# Altium footprint library Connector - Terminal Block.PcbLib: 20 footprints (part 2 of 2)
Each footprint in its own frame and in the unit in brackets; x right, y up, seen from the top. Pads: shape width x height; smd on the part's side, far side on the other; paste and mask are expansions set on the pad; w line width, h text height; cw(c..) or ccw(c..) is an arc to the next point about the centre after c.
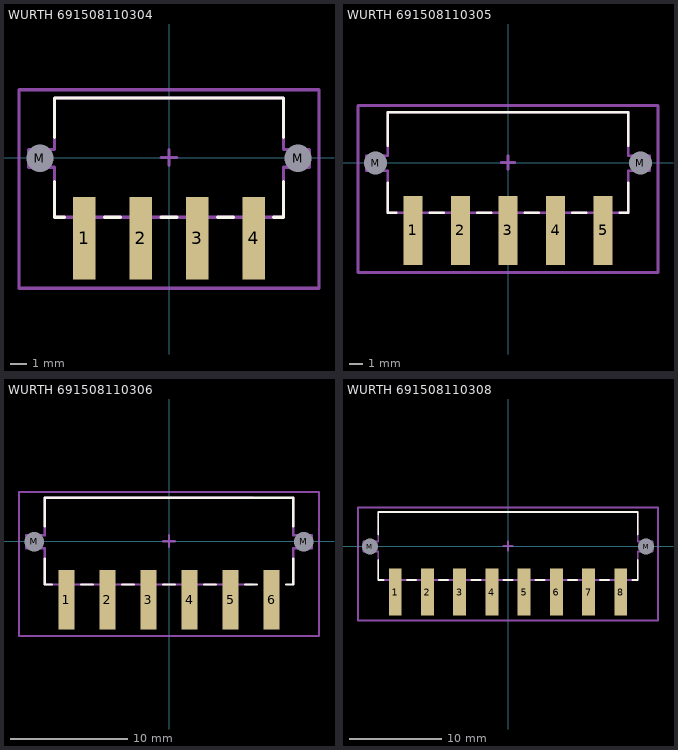
[diagram p1: the footprints below, top view; thin cyan lines are the x and y axes]

## WURTH 691508110304 [mm]
height 11.2
pads (6):
  rect 1.4x5.1 smd: 1(-5.25,-5) 2(-1.75,-5) 3(1.75,-5) 4(5.25,-5)
  round 1 hole 1.7 unplated: M(-8,-0.05) M(8,-0.05)
Top Overlay:
  lines w0.2: -7.1,-1.5 -7.1,-3.7 -6.5,-3.7 ; -7.1,1.25 -7.1,3.7 7.1,3.7 7.1,1.25 ; -4,-3.7 -3,-3.7 ; -0.5,-3.7 0.5,-3.7 ; 3,-3.7 4,-3.7 ; 6.5,-3.7 7.1,-3.7 7.1,-1.5
Mechanical 1:
  lines w0.2: 0,-3.7 3.6,-3.7 ; 0.1,-3.7 -3.5,-3.7 -7.1,-3.7 -7.1,-0.6 -8.7,-0.6 -8.7,0.5 -7.1,0.5 -7.1,3.7 7.1,3.7 7.1,0.5 8.7,0.5 8.7,-0.6 7.1,-0.6 7.1,-3.7 3.5,-3.7
Mechanical 15:
  lines w0.2: -0.5,0 0.5,0 ; 0,-0.5 0,0.5 ; -9.3,-8.1 -9.3,4.2 9.3,4.2 9.3,-8.1 -9.3,-8.1
3D body "Wurth 691508110304.STEP": height 11.2, standoff -2, extent -8.675,-7.2 8.675,3.7

## WURTH 691508110305 [mm]
height 11.2
pads (7):
  rect 1.4x5.1 smd: 1(-7,-5) 2(-3.5,-5) 3(0,-5) 4(3.5,-5) 5(7,-5)
  round 1 hole 1.7 unplated: M(-9.75,-0.05) M(9.75,-0.05)
Top Overlay:
  lines w0.2: -8.85,-1.5 -8.85,-3.7 -8.25,-3.7 ; -8.85,1.25 -8.85,3.7 8.85,3.7 8.85,1.25 ; -5.75,-3.7 -4.75,-3.7 ; -2.25,-3.7 -1.25,-3.7 ; 1.25,-3.7 2.25,-3.7 ; 4.75,-3.7 5.75,-3.7 ; 8.25,-3.7 8.85,-3.7 8.85,-1.5
Mechanical 1:
  lines w0.2: -10.45,-0.6 -8.85,-0.6 -8.85,-3.7 8.85,-3.7 8.85,-0.6 10.45,-0.6 10.45,0.5 8.85,0.5 8.85,3.7 -8.85,3.7 -8.85,0.5 -10.45,0.5 -10.45,-0.6
Mechanical 15:
  lines w0.2: -0.5,0 0.5,0 ; 0,-0.5 0,0.5 ; -11.05,-8.1 -11.05,4.2 11.05,4.2 11.05,-8.1 -11.05,-8.1
3D body "Wurth 691508110305.STEP": height 11.2, standoff -2, extent -10.425,-7.2 10.425,3.7

## WURTH 691508110306 [mm]
height 11.2
pads (8):
  rect 1.4x5.1 smd: 1(-8.75,-5) 2(-5.25,-5) 3(-1.75,-5) 4(1.75,-5) 5(5.25,-5) 6(8.75,-5)
  round 1 hole 1.7 unplated: M(-11.5,-0.05) M(11.5,-0.05)
Top Overlay:
  lines w0.2: -10.6,-1.5 -10.6,-3.7 -10,-3.7 ; -10.6,1.25 -10.6,3.7 10.6,3.7 10.6,1.25 ; -7.5,-3.7 -6.5,-3.7 ; -4,-3.7 -3,-3.7 ; -0.5,-3.7 0.5,-3.7 ; 3,-3.7 4,-3.7 ; 6.5,-3.7 7.5,-3.7 ; 10,-3.7 10.6,-3.7 10.6,-1.5
Mechanical 1:
  lines w0.2: 7.1,-3.7 -10.6,-3.7 -10.6,-0.6 -12.2,-0.6 -12.2,0.5 -10.6,0.5 -10.6,3.7 7.1,3.7 ; 10.6,-3.7 10.6,-0.6 12.2,-0.6 12.2,0.5 10.6,0.5 10.6,3.7
Mechanical 15:
  lines w0.2: -0.5,0 0.5,0 ; 0,-0.5 0,0.5 ; -12.8,-8.1 -12.8,4.2 12.8,4.2 12.8,-8.1 -12.8,-8.1
3D body "Wurth 691508110306.STEP": height 11.2, standoff -2, extent -12.175,-7.2 12.175,3.7

## WURTH 691508110308 [mm]
height 11.2
pads (10):
  rect 1.4x5.1 smd: 1(-12.25,-5) 2(-8.75,-5) 3(-5.25,-5) 4(-1.75,-5) 5(1.75,-5) 6(5.25,-5) 7(8.75,-5) 8(12.25,-5)
  round 1 hole 1.7 unplated: M(-15,-0.05) M(15,-0.05)
Top Overlay:
  lines w0.2: -14.1,-1.5 -14.1,-3.7 -13.5,-3.7 ; -14.1,1.25 -14.1,3.7 14.1,3.7 14.1,1.25 ; -11,-3.7 -10,-3.7 ; -7.5,-3.7 -6.5,-3.7 ; -4,-3.7 -3,-3.7 ; -0.5,-3.7 0.5,-3.7 ; 3,-3.7 4,-3.7 ; 6.5,-3.7 7.5,-3.7 ; 10,-3.7 11,-3.7 ; 13.5,-3.7 14.1,-3.7 14.1,-1.5
Mechanical 1:
  lines w0.2: -15.7,-0.6 -15.7,0.5 -14.1,0.5 -14.1,3.7 14.1,3.7 14.1,0.5 15.7,0.5 15.7,-0.6 14.1,-0.6 14.1,-3.7 -14.1,-3.7 -14.1,-0.6 -15.7,-0.6
Mechanical 15:
  lines w0.2: -0.5,0 0.5,0 ; 0,-0.5 0,0.5 ; -16.3,-8.1 16.3,-8.1 16.3,4.2 -16.3,4.2 -16.3,-8.1
3D body "Wurth 691508110308.STEP": height 11.2, standoff -2, extent -15.675,-7.2 15.675,3.7